# EAGLE library part 74HC04 (library Public)
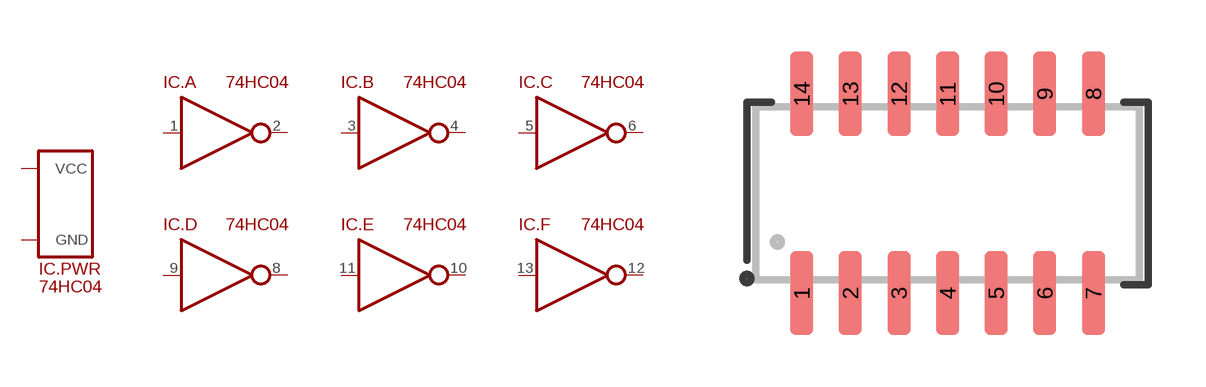
[diagram p25: symbol with the pads of SOP14; footprint SOP14]

Designator prefix IC; gates .PWR=SUPPLY_VCC/GND .A=INVERTER .B=INVERTER .C=INVERTER .D=INVERTER .E=INVERTER .F=INVERTER

## 74HC04  [SOP14]
1  .A:IN
2  .A:OUT
3  .B:IN
4  .B:OUT
5  .C:IN
6  .C:OUT
7  .PWR:GND
8  .D:OUT
9  .D:IN
10  .E:OUT
11  .E:IN
12  .F:OUT
13  .F:IN
14  .PWR:VCC

## Footprint SOP14 (pad centres in mm)
smd 0.6 x 2.2: 1 -3.81,-2.6; 2 -2.54,-2.6; 3 -1.27,-2.6; 4 0,-2.6; 5 1.27,-2.6; 6 2.54,-2.6; 7 3.81,-2.6; 8 3.81,2.6; 9 2.54,2.6; 10 1.27,2.6; 11 0,2.6; 12 -1.27,2.6; 13 -2.54,2.6; 14 -3.81,2.6